# EAGLE library part DELAYLINE (library A3660)
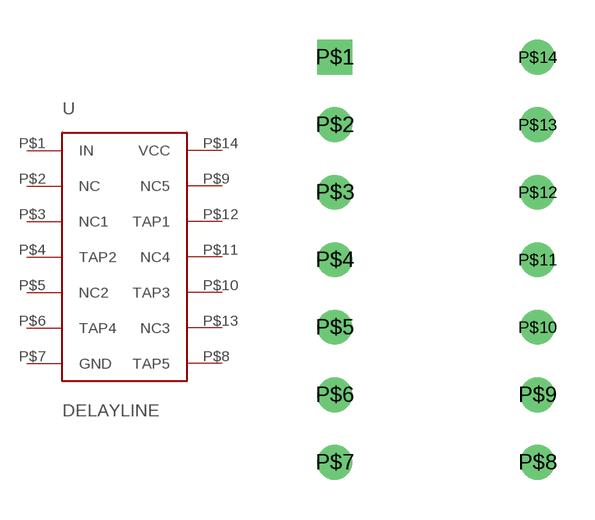
[diagram p5: symbol with the pads of DELAYLINE; footprint DELAYLINE]

Designator prefix -

## DELAYLINE  [DELAYLINE]
P$1  IN
P$2  NC
P$3  NC1
P$4  TAP2
P$5  NC2
P$6  TAP4
P$7  GND
P$8  TAP5
P$9  NC5
P$10  TAP3
P$11  NC4
P$12  TAP1
P$13  NC3
P$14  VCC

## Footprint DELAYLINE (pad centres in mm)
drill 0.8 square: P$1 -3.81,7.62
drill 0.8: P$2 -3.81,5.08; P$3 -3.81,2.54; P$4 -3.81,0; P$5 -3.81,-2.54; P$6 -3.81,-5.08; P$7 -3.81,-7.62; P$8 3.81,-7.62; P$9 3.81,-5.08; P$10 3.81,-2.54; P$11 3.81,0; P$12 3.81,2.54; P$13 3.81,5.08; P$14 3.81,7.62